# Altium footprint library Eagle_WE-XTAL (rev21c) v1.PCBLIB: 18 footprints (part 1 of 2)
Each footprint in its own frame and in the unit in brackets; x right, y up, seen from the top. Pads: shape width x height; smd on the part's side, far side on the other; paste and mask are expansions set on the pad; w line width, h text height; cw(c..) or ccw(c..) is an arc to the next point about the centre after c.
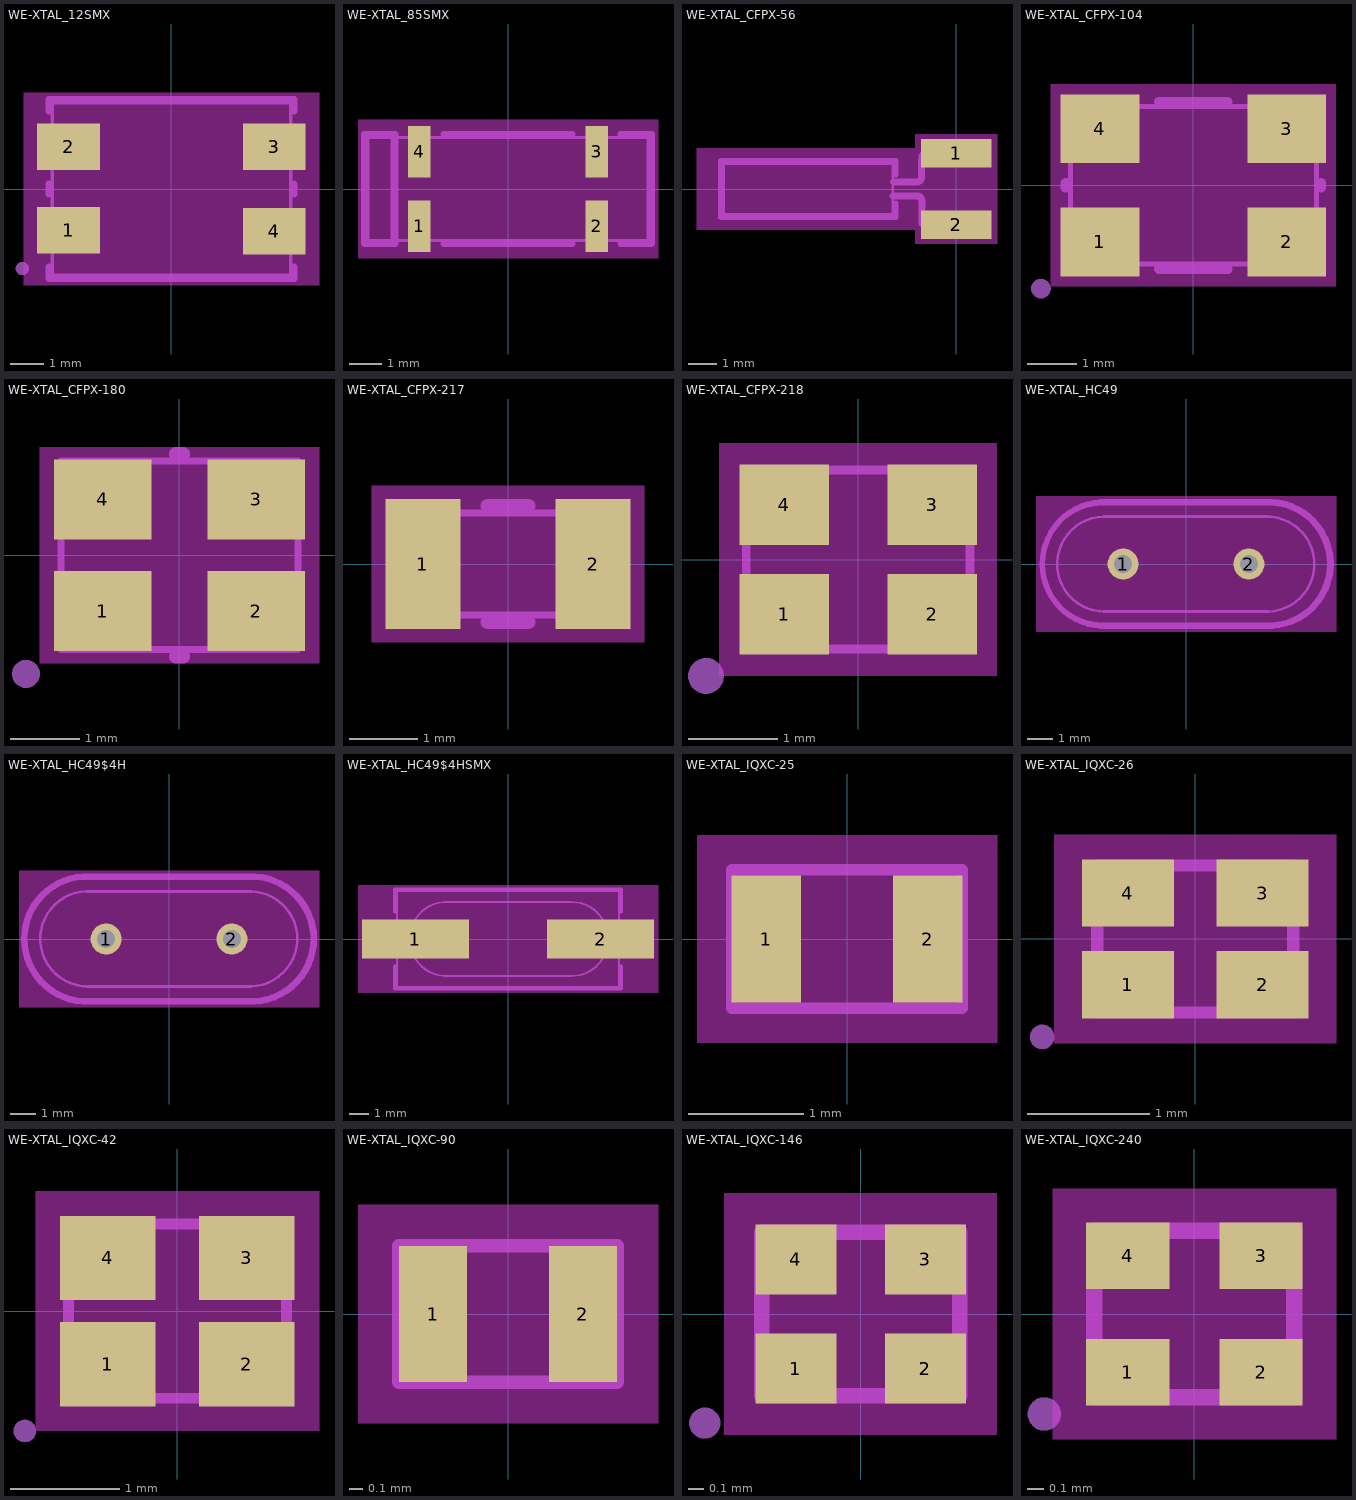
[diagram p0: the footprints below, top view; thin cyan lines are the x and y axes]

## WE-XTAL_12SMX [mm]
pads (4):
  rect 1.9x1.4 smd: 1(-3.1,-1.25) 2(-3.1,1.27) 3(3.1,1.27) 4(3.1,-1.27)
Top keep-out:
  region: -4.45,-2.9 4.45,-2.9 4.45,2.9 -4.45,2.9
tDocu:
  lines w0.1: -3.6,-2.6 3.6,-2.6 3.6,2.6 -3.6,2.6 -3.6,-2.6
tPlace:
  circle w0.2: c-4.5,-2.4 r0.1
  lines w0.2: -3.7,-2.35 -3.7,-2.7 3.7,-2.7 3.7,-2.35 ; -3.7,-0.15 -3.7,0.15 ; -3.7,2.35 -3.7,2.7 3.7,2.7 3.7,2.35 ; 3.7,-0.15 3.7,0.15

## WE-XTAL_85SMX [mm]
pads (4):
  rect 0.7x1.6 smd: 1(-2.75,-1.15) 2(2.75,-1.15) 3(2.75,1.15) 4(-2.75,1.15)
Top keep-out:
  region: -4.65,-2.15 4.65,-2.15 4.65,2.15 -4.65,2.15
tDocu:
  lines w0.1: -3.6,-1.6 -3,-1.6 ; -3.6,-1.6 -4.35,-1.6 -4.35,1.6 -3.6,1.6 ; -3.6,-1.6 -3.6,1.6 ; -3.6,1.6 -3,1.6 ; -3,-1.6 -2.5,-1.6 ; -3,-1.6 -3,-1.9 -2.5,-1.9 -2.5,-1.6 ; -3,1.6 -2.5,1.6 ; -3,1.6 -3,1.9 -2.5,1.9 -2.5,1.6 ; -2.5,-1.6 2.5,-1.6 ; -2.5,1.6 2.5,1.6 ; 2.5,-1.6 3,-1.6 ; 2.5,-1.6 2.5,-1.9 3,-1.9 3,-1.6 ; 2.5,1.6 3,1.6 ; 2.5,1.6 2.5,1.9 3,1.9 3,1.6 ; 3,-1.6 4.35,-1.6 4.35,1.6 3,1.6
tPlace:
  lines w0.2: -2,-1.7 2,-1.7 ; -2,1.7 2,1.7 ; 3.5,-1.7 4.45,-1.7 4.45,1.7 3.5,1.7 ; -4.45,-1.7 -4.45,1.7 -3.5,1.7 -3.5,-1.7 -4.45,-1.7

## WE-XTAL_CFPX-56 [mm]
pads (2):
  rect 2.5x1 smd: 1(0,1.27) 2(0,-1.27)
Top keep-out:
  region: -9,-1.25 -3,-1.25 -3,1.25 -9,1.25
  region: -9,-1.25 -3,-1.25 -3,1.25 -9,1.25
  region: -1.479,-1.45 -1.45,-1.479 -1.45,-1.95 1.45,-1.95 1.45,1.95 -1.45,1.95 -1.45,1.479 -1.479,1.45 -9.2,1.45 -9.2,-1.45
tDocu:
  lines w0.1: -8.25,-0.9 -2.25,-0.9 -2.25,-0.25 -2.25,0.9 -8.25,0.9 -8.25,-0.9
  lines w0.25: -2.25,-0.25 -1.38,-0.25 ; -2.23,0.25 -1.41,0.25 ; -1.38,0.25 -1.41,0.25 ; -1.36,-0.25 -1.38,-0.25 ; -1.23,1.05 -1.23,0.41 cw(c-1.4,0.42) -1.41,0.25 ; -1.22,-1.02 -1.22,-1.18 ccw(c-1.125,-1.175) -1.12,-1.27 0.5,-1.27 ; -1.22,-1 -1.22,-0.41 ccw(c-1.38,-0.41) -1.38,-0.25 ; -1.22,1 -1.22,1.11 cw(c-1.08,1.11) -1.08,1.25 ; -1.12,1.25 -1.08,1.25 ; 0.5,1.25 -1.08,1.25
tPlace:
  lines w0.2: -2.15,-0.5 -2.15,-1 -8.35,-1 -8.35,1 -2.15,1 -2.15,0.5
Document:
  text "pcb reserved area" at -8.4,-0.1 h0.63

## WE-XTAL_CFPX-104 [mm]
pads (4):
  rect 1.6x1.4 smd: 1(-1.9,-1.15) 2(1.9,-1.15) 3(1.9,1.15) 4(-1.9,1.15)
Top keep-out:
  region: -2.9,-2.05 2.9,-2.05 2.9,2.05 -2.9,2.05
tDocu:
  lines w0.1: -2.5,-1.6 2.5,-1.6 2.5,1.6 -2.5,1.6 -2.5,-1.6
tPlace:
  circle w0.2: c-3.1,-2.1 r0.1
  lines w0.2: -2.6,-0.05 -2.6,0.05 ; -0.7,-1.7 0.7,-1.7 ; -0.7,1.7 0.7,1.7 ; 2.6,-0.05 2.6,0.05

## WE-XTAL_CFPX-180 [mil]
pads (4):
  rect 55.12x45.28 smd: 1(-43.31,-31.5) 2(43.31,-31.5) 3(43.31,31.5) 4(-43.31,31.5)
Top keep-out:
  region: -78.74,-61.02 78.74,-61.02 78.74,61.02 -78.74,61.02
tDocu:
  lines w3.94: -66.93,-53.15 66.93,-53.15 66.93,53.15 -66.93,53.15 -66.93,-53.15
tPlace:
  circle w7.87: c-86.61,-66.93 r3.94
  lines w7.87: -1.97,-57.09 1.97,-57.09 ; -1.97,57.09 1.97,57.09

## WE-XTAL_CFPX-217 [mm]
pads (2):
  rect 1.1x1.9 smd: 1(-1.25,0) 2(1.25,0)
Top keep-out:
  region: -2,-1.15 2,-1.15 2,1.15 -2,1.15
tDocu:
  lines w0.1: -1.6,-0.75 1.6,-0.75 1.6,0.75 -1.6,0.75 -1.6,-0.75
tPlace:
  lines w0.2: -0.3,-0.85 0.3,-0.85 ; -0.3,0.85 0.3,0.85

## WE-XTAL_CFPX-218 [mm]
pads (4):
  rect 1x0.9 smd: 1(-0.825,-0.612) 2(0.825,-0.612) 3(0.825,0.612) 4(-0.825,0.612)
Top keep-out:
  region: -1.55,-1.3 1.55,-1.3 1.55,1.3 -1.55,1.3
tDocu:
  lines w0.1: -1.25,-1 1.25,-1 1.25,1 -1.25,1 -1.25,-1
tPlace:
  circle w0.2: c-1.7,-1.3 r0.1

## WE-XTAL_HC49 [mm]
pads (2):
  round 1.208 hole 0.7: 1(-2.44,0) 2(2.44,0)
Top keep-out:
  region: -5.825,-2.625 5.825,-2.625 5.825,2.625 -5.825,2.625
tDocu:
  lines w0.1: -3.2,-1.845 3.2,-1.845 ; -3.2,1.84 ccw(c-3.16,-0.005) -3.12,-1.85 ; -3.2,1.845 3.2,1.845 ; 3.1,1.84 cw(c3.14,-0.005) 3.18,-1.85 ; -3.2,-2.325 3.2,-2.325 ccw(c3.2,0) 3.2,2.325 -3.2,2.325 ccw(c-3.2,0) -3.2,-2.325
tPlace:
  lines w0.2: -3.31,2.42 ccw(c-3.165,0) -3.02,-2.42 ; -3.3,-2.425 3.3,-2.425 ; -3.3,2.425 3.3,2.425 ; 3.08,2.43 cw(c3.21,0.005) 3.34,-2.42

## WE-XTAL_HC49$4H [mm]
pads (2):
  round 1.208 hole 0.7: 1(-2.44,0) 2(2.44,0)
Top keep-out:
  region: -5.825,-2.65 5.825,-2.65 5.825,2.65 -5.825,2.65
tDocu:
  lines w0.1: -3.2,-1.845 3.2,-1.845 ; -3.2,1.845 3.2,1.845 ; -3.17,1.85 ccw(c-3.155,0.005) -3.14,-1.84 ; 3.09,1.85 cw(c3.135,0.005) 3.18,-1.84 ; -3.2,-2.35 3.2,-2.35 ccw(c3.187,0) 3.175,2.35 -3.175,2.35 ccw(c-3.187,0) -3.2,-2.35
tPlace:
  lines w0.2: -3.32,2.45 ccw(c-3.195,0) -3.07,-2.45 ; -3.3,-2.45 -3.07,-2.45 ; -3.3,2.45 3.07,2.45 ; 3.3,-2.45 -3.07,-2.45 ; 3.3,2.45 3.07,2.45 ; 3.33,-2.45 ccw(c3.2,0) 3.07,2.45

## WE-XTAL_HC49$4HSMX [mm]
pads (2):
  rect 5.5x2 smd: 1(-4.75,0) 2(4.75,0)
Top keep-out:
  region: -7.7,-2.75 7.7,-2.75 7.7,2.75 -7.7,2.75
tDocu:
  lines w0.1: -3.25,-1.9 -3.15,-1.9 ; -3.25,1.9 -3.15,1.9 ; -5.7,-0.3 -5.7,-2.45 5.7,-2.45 5.7,-0.3 ; -5.7,-0.3 -5.7,0.3 ; -5.7,-0.3 -6.7,-0.3 -6.7,0.3 -5.7,0.3 ; -5.7,0.3 -5.7,2.45 5.7,2.45 5.7,0.3 ; -3.15,-1.9 3.25,-1.9 ccw(c3.25,0) 3.25,1.9 -3.15,1.9 ; -3.15,-1.9 cw(c-3.15,0) -3.15,1.9 ; 5.7,-0.3 5.7,0.3 ; 5.7,-0.3 6.7,-0.3 6.7,0.3 5.7,0.3
tPlace:
  lines w0.2: -5.8,-1.4 -5.8,-2.55 5.8,-2.55 5.8,-1.4 ; -5.8,1.4 -5.8,2.55 5.8,2.55 5.8,1.4

## WE-XTAL_IQXC-25 [mm]
pads (2):
  rect 0.6x1.1 smd: 1(-0.7,0) 2(0.7,0)
Top keep-out:
  region: -1.3,-0.9 1.3,-0.9 1.3,0.9 -1.3,0.9
tDocu:
  lines w0.1: -1,-0.6 1,-0.6 1,0.6 -1,0.6 -1,-0.6

## WE-XTAL_IQXC-26 [mm]
pads (4):
  rect 0.75x0.55 smd: 1(-0.55,-0.375) 2(0.55,-0.375) 3(0.55,0.375) 4(-0.55,0.375)
Top keep-out:
  region: -1.15,-0.85 1.15,-0.85 1.15,0.85 -1.15,0.85
tDocu:
  lines w0.1: -0.8,-0.6 0.8,-0.6 0.8,0.6 -0.8,0.6 -0.8,-0.6
tPlace:
  circle w0.1: c-1.25,-0.8 r0.05

## WE-XTAL_IQXC-42 [mm]
pads (4):
  rect 0.875x0.775 smd: 1(-0.638,-0.487) 2(0.638,-0.487) 3(0.638,0.487) 4(-0.638,0.487)
Top keep-out:
  region: -1.3,-1.1 1.3,-1.1 1.3,1.1 -1.3,1.1
tDocu:
  lines w0.1: -1,-0.8 1,-0.8 1,0.8 -1,0.8 -1,-0.8
tPlace:
  circle w0.1: c-1.4,-1.1 r0.053

## WE-XTAL_IQXC-90 [mm]
pads (2):
  rect 0.5x1 smd: 1(-0.55,0) 2(0.55,0)
Top keep-out:
  region: -1.1,-0.8 1.1,-0.8 1.1,0.8 -1.1,0.8
tDocu:
  lines w0.1: -0.8,-0.5 0.8,-0.5 0.8,0.5 -0.8,0.5 -0.8,-0.5

## WE-XTAL_IQXC-146 [mm]
pads (4):
  rect 0.52x0.45 smd: 1(-0.415,-0.35) 2(0.415,-0.35) 3(0.415,0.35) 4(-0.415,0.35)
Top keep-out:
  region: -0.875,-0.775 0.875,-0.775 0.875,0.775 -0.875,0.775
tDocu:
  lines w0.1: -0.635,-0.525 0.635,-0.525 0.635,0.525 -0.635,0.525 -0.635,-0.525
tPlace:
  circle w0.1: c-1,-0.7 r0.05

## WE-XTAL_IQXC-240 [mm]
pads (4):
  rect 0.5x0.4 smd: 1(-0.4,-0.35) 2(0.4,-0.35) 3(0.4,0.35) 4(-0.4,0.35)
Top keep-out:
  region: -0.85,-0.75 0.85,-0.75 0.85,0.75 -0.85,0.75
tDocu:
  lines w0.1: -0.6,-0.5 0.6,-0.5 0.6,0.5 -0.6,0.5 -0.6,-0.5
tPlace:
  circle w0.1: c-0.9,-0.6 r0.05